# EAGLE library part CAP1188 (library CAP11XX)
CAP1188 8 Channel Capacitive Touch Sensor with 8 LED Drivers Microchip
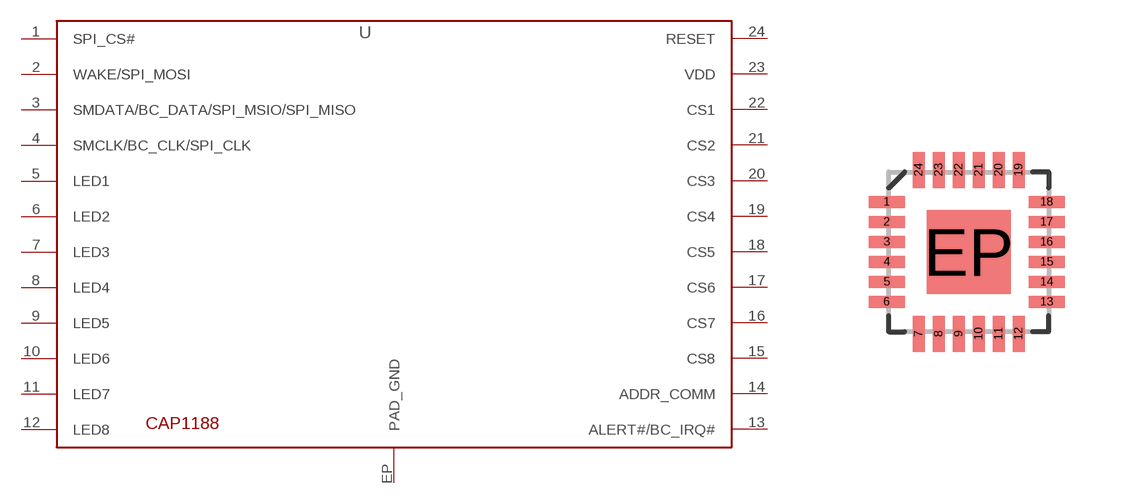
[diagram p0: symbol with the pads of QFN-24_ALT2; footprint QFN-24_ALT2]

Designator prefix -

## CAP1188  [QFN-24_ALT2]
1  SPI_CS#
2  WAKE/SPI_MOSI
3  SMDATA/BC_DATA/SPI_MSIO/SPI_MISO
4  SMCLK/BC_CLK/SPI_CLK
5  LED1
6  LED2
7  LED3
8  LED4
9  LED5
10  LED6
11  LED7
12  LED8
13  ALERT#/BC_IRQ#
14  ADDR_COMM
15  CS8
16  CS7
17  CS6
18  CS5
19  CS4
20  CS3
21  CS2
22  CS1
23  VDD
24  RESET
EP  PAD_GND

## Footprint QFN-24_ALT2 (pad centres in mm)
24-pin QFN with Exposed Thermal pad Parts that use this package: A6282 Last modified: 8/20/10 ***UNPROVEN***
smd 0.9 x 0.3: 1 -2.05,1.25; 2 -2.05,0.75; 3 -2.05,0.25; 4 -2.05,-0.25; 5 -2.05,-0.75; 6 -2.05,-1.25; 13 1.95,-1.25; 14 1.95,-0.75; 15 1.95,-0.25; 16 1.95,0.25; 17 1.95,0.75; 18 1.95,1.25
smd 0.3 x 0.9: 7 -1.25,-2.05; 8 -0.75,-2.05; 9 -0.25,-2.05; 10 0.25,-2.05; 11 0.75,-2.05; 12 1.25,-2.05; 19 1.25,2.05; 20 0.75,2.05; 21 0.25,2.05; 22 -0.25,2.05; 23 -0.75,2.05; 24 -1.25,2.05
smd 2.1 x 2.1: EP 0,0